# Altium footprint library 760390014.PcbLib: 1 footprints
Each footprint in its own frame and in the unit in brackets; x right, y up, seen from the top. Pads: shape width x height; smd on the part's side, far side on the other; paste and mask are expansions set on the pad; w line width, h text height; cw(c..) or ccw(c..) is an arc to the next point about the centre after c.
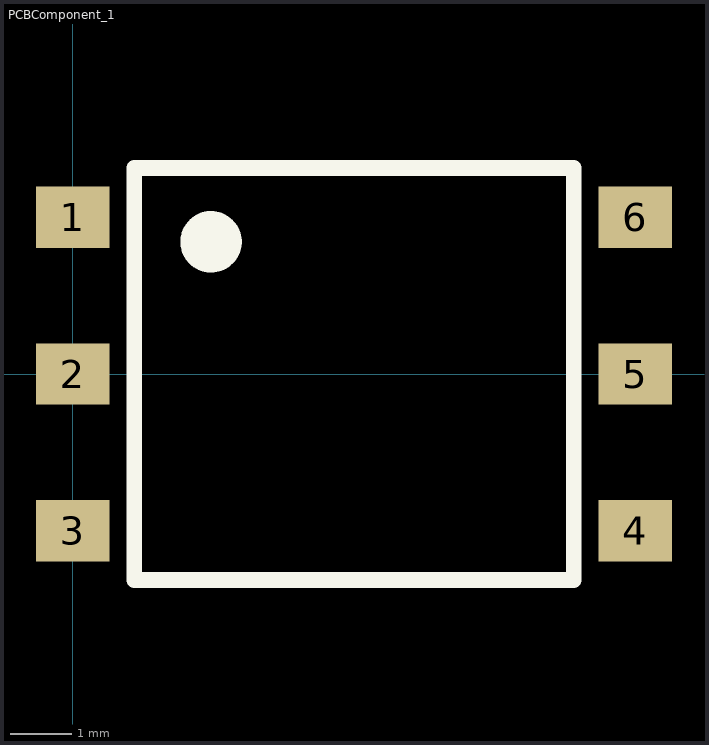
[diagram p0: the footprint, top view; thin cyan lines are the x and y axes]

## PCBComponent_1 [mm]
pads (6):
  rect 1.2x1 smd: 1(0,2.55) 2(0,0) 3(0,-2.55) 4(9.15,-2.55) 5(9.15,0) 6(9.15,2.55)
Top Overlay:
  circle w0.5: c2.25,2.15 r0.25
  lines w0.254: 1,-3.35 8.15,-3.35 8.15,3.35 1,3.35 1,-3.35